# Altium integrated library FA14X8R1H104KNU06.IntLib: 1 symbol
Pins are listed as number, name and electrical type; pins without a type are passive.

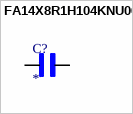
[diagram p0: symbol FA14X8R1H104KNU06]

## FA14X8R1H104KNU06
designator C?
0.1 ÂµF Â±10% 50V Ceramic Capacitor X8R Radial; MF: TDK; MP: FA14X8R1H104KNU06; SnapEDA_Link: https://www.snapeda.com/parts/FA14X8R1H104KNU06/TDK/view-part/?ref=snap; Package: Radial TDK; Value: *; Check_prices: https://www.snapeda.com/parts/FA14X8R1H104KNU06/TDK/view-part/?ref=eda
footprint CAPRB250W50L450T300H550
pins: 1, 2